# Altium footprint library PowerDistribution.PcbLib: 27 footprints (part 1 of 2)
Each footprint in its own frame and in the unit in brackets; x right, y up, seen from the top. Pads: shape width x height; smd on the part's side, far side on the other; paste and mask are expansions set on the pad; w line width, h text height; cw(c..) or ccw(c..) is an arc to the next point about the centre after c.
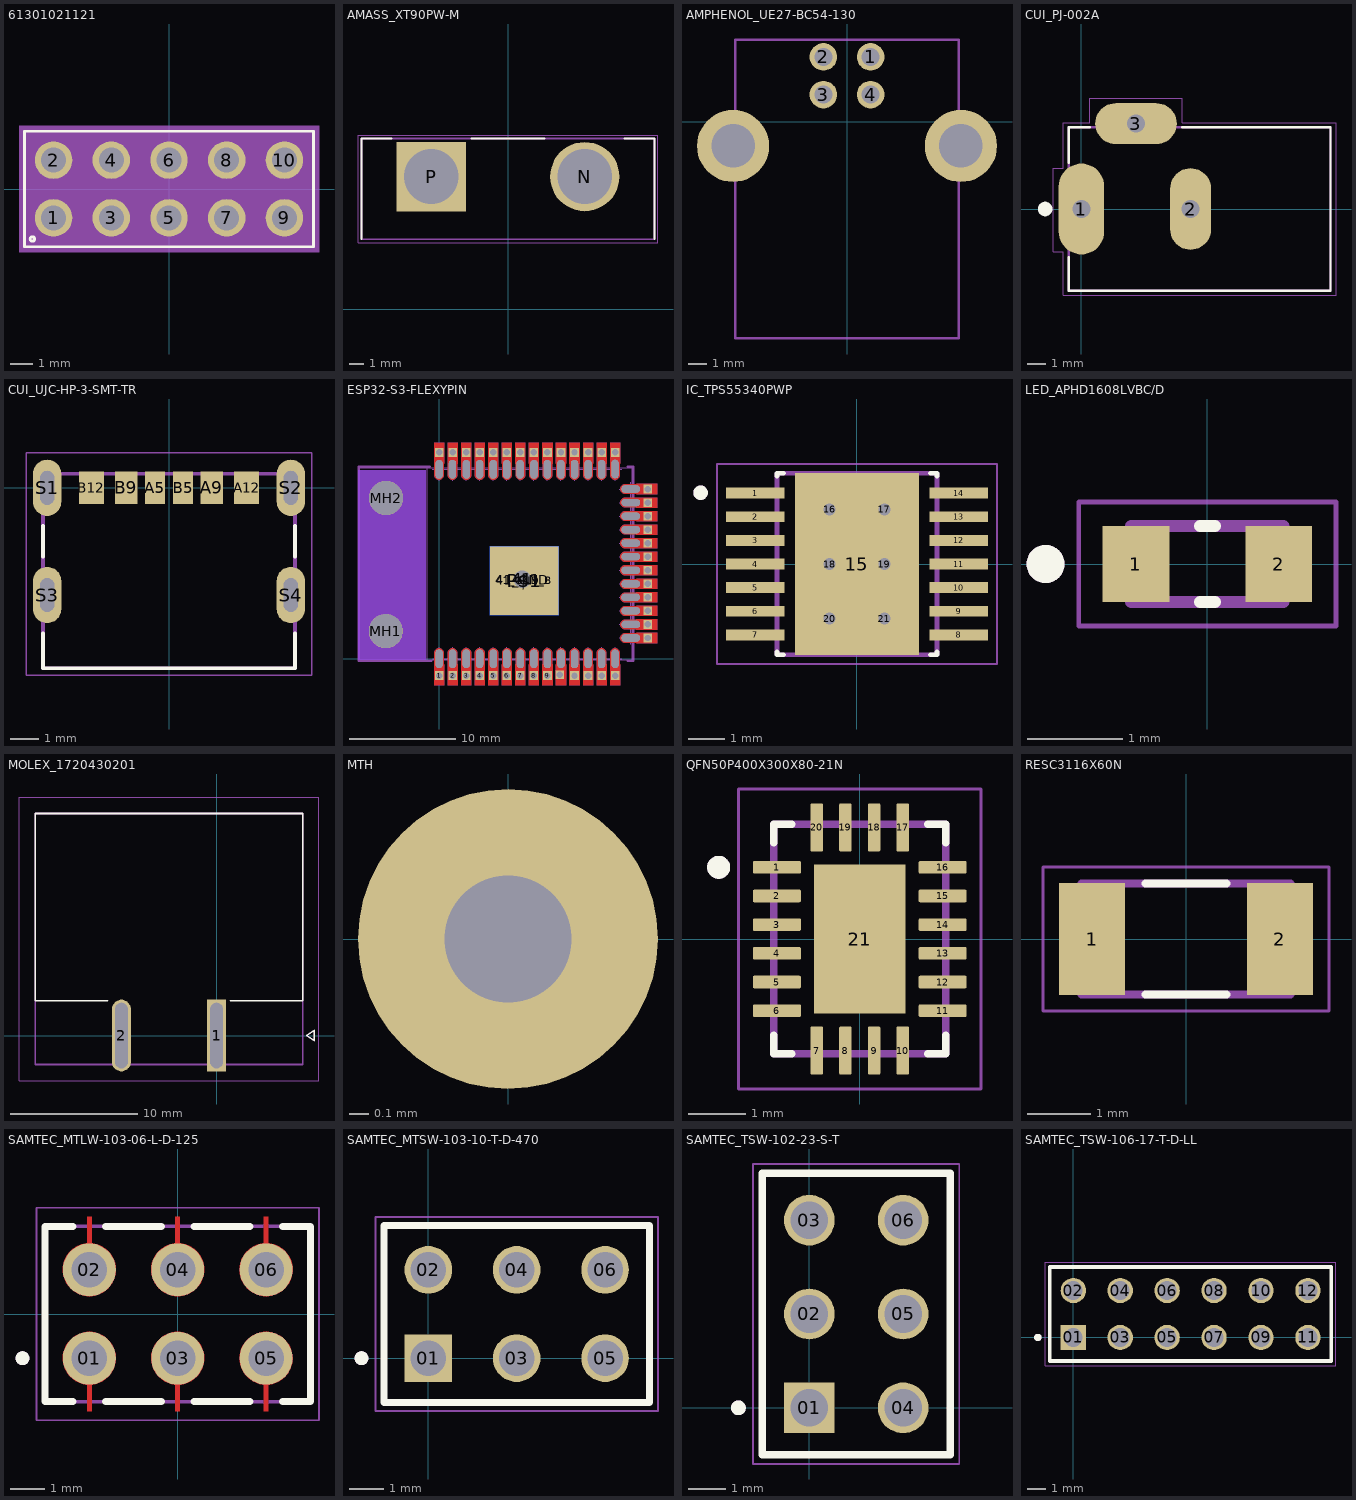
[diagram p0: the footprints below, top view; thin cyan lines are the x and y axes]

## 61301021121 [mm]
pads (10):
  round 1.65 hole 1.1: 1(-5.08,-1.27) 2(-5.08,1.27) 3(-2.54,-1.27) 4(-2.54,1.27) 5(0,-1.27) 6(0,1.27) 7(2.54,-1.27) 8(2.54,1.27) 9(5.08,-1.27) 10(5.08,1.27)
Top Overlay:
  circle w0.127: c-6.01,-2.2 r0.1
  lines w0.127: -6.35,-2.54 -6.35,2.54 6.35,2.54 6.35,-2.54 -6.35,-2.54
Mechanical 15:
  region: 6.6,-2.79 -6.6,-2.79 -6.6,2.79 6.6,2.79

## AMASS_XT90PW-M [mm]
pads (2):
  round 4.916 hole 3.9: N(5.45,9.4)
  rect 4.916x4.916 / inner round 4.916 / far side rect 4.916x4.916 hole 3.9: P(-5.45,9.4)
Top Overlay:
  lines w0.127: -10.4,4.953 -10.4,12.1 -8.25,12.1 ; -2.6,12.1 2.6,12.1 ; 8.25,12.1 10.4,12.1 10.4,4.953
Mechanical 13:
  lines w0.127: -10.4,4.953 -10.4,12.1 10.4,12.1 10.4,4.953 -10.4,4.953
Mechanical 15:
  lines w0.05: -10.65,4.699 -10.65,12.35 10.65,12.35 10.65,4.699 -10.65,4.699

## AMPHENOL_UE27-BC54-130 [mm]
pads (6):
  round 1.458 hole 0.95: 1(1.25,3.44) 2(-1.25,3.44) 3(-1.25,1.44) 4(1.25,1.44)
  round 3.81 hole 2.3: ""(-6.02,-1.27)
  round 3.81 hole 2.3 unplated: ""(6.02,-1.27)
Mechanical 13:
  lines w0.127: -5.9,-11.42 5.9,-11.42 5.9,4.33 -5.9,4.33 -5.9,-11.42

## CUI_PJ-002A [mm]
pads (3):
  oval 2.5x5 hole 1 square: 1(0,0)
  oval 2.25x4.5 hole 1 square: 2(6,0)
  oval 4.5x2.25 hole 1 square: 3(3,4.7)
Top Overlay:
  circle w0.4: c-2,0 r0.2
  lines w0.127: -0.7,-2.65 -0.7,-4.5 13.7,-4.5 13.7,4.5 5.55,4.5 ; -0.7,2.55 -0.7,4.5 0.45,4.5
Mechanical 13:
  lines w0.127: -0.7,-4.5 -0.7,4.5 13.7,4.5 13.7,-4.5 -0.7,-4.5
Mechanical 15:
  lines w0.05: -1.55,-2.35 -1,-2.35 -1,-4.75 14,-4.75 14,4.75 5.55,4.75 5.55,6.1 0.45,6.1 0.45,4.75 -1,4.75 -1,2.25 -1.55,2.25 -1.55,-2.35
3D body "step_temp.STEP": height 11, standoff -3.5, extent -0.7,-4.5 13.7,4.9

## CUI_UJC-HP-3-SMT-TR [mm]
pads (10):
  rect 0.7x1.15 smd: A5(-0.5,0.005) B5(0.5,0.005)
  rect 0.8x1.15 smd: A9(1.52,0.005) B9(-1.52,0.005)
  rect 0.9x1.15 smd: A12(2.75,0.005) B12(-2.75,0.005)
  oval 1x2 hole 0.5 slot 1.2 at 90 deg: S1(-4.32,0) S2(4.32,0) S3(-4.32,-3.8) S4(4.32,-3.8)
Top Overlay:
  lines w0.127: -4.47,-5.15 -4.47,-6.4 4.47,-6.4 4.47,-5.15 ; -4.47,-2.45 -4.47,-1.35 ; 4.47,-2.45 4.47,-1.35
Mechanical 13:
  lines w0.127: -4.47,-6.4 -4.47,0.5 4.47,0.5 4.47,-6.4 -4.47,-6.4
Mechanical 15:
  lines w0.05: -5.07,-6.65 -5.07,1.25 5.07,1.25 5.07,-6.65 -5.07,-6.65

## ESP32-S3-FLEXYPIN [mm]
pads (86):
  rect 0.813x0.813 / inner round 0.751 / far side rect 0.813x0.813 hole 0.6: 1(0,-1.575) 2(1.27,-1.575) 3(2.54,-1.575) 4(3.81,-1.575) 5(5.08,-1.575) 6(6.35,-1.575) 7(7.62,-1.575) 8(8.89,-1.575) 9(10.16,-1.575) 10(11.323,-1.511) 11(12.7,-1.575) 12(13.97,-1.575) 13(15.24,-1.575) 14(16.51,-1.575) 15(19.555,1.95) 16(19.555,3.22) 17(19.555,4.49) 18(19.555,5.76) 19(19.555,7.03) 20(19.555,8.3) 21(19.555,9.57) 22(19.555,10.84) 23(19.555,12.11) 24(19.555,13.38) 25(19.555,14.65) 26(19.555,15.92) 27(16.51,19.355) 28(15.24,19.355) 29(13.97,19.355) 30(12.7,19.355) 31(11.43,19.355) 32(10.16,19.355) 33(8.89,19.355) 34(7.62,19.355) 35(6.35,19.355) 36(5.08,19.355) 37(3.81,19.355) 38(2.54,19.355) 39(1.27,19.355) 40(0,19.355)
  oval 0.66x1.73 hole 0.66 slot 1.73 at 90 deg: 1(0,0) 2(1.27,0) 3(2.54,0) 4(3.81,0) 5(5.08,0) 6(6.35,0) 7(7.62,0) 8(8.89,0) 9(10.16,0) 10(11.43,0) 11(12.7,0) 12(13.97,0) 13(15.24,0) 14(16.51,0) 27(16.5,17.8) 28(15.25,17.775) 29(13.975,17.775) 30(12.7,17.775) 31(11.425,17.775) 32(10.15,17.775) 33(8.9,17.775) 34(7.6,17.775) 35(6.35,17.775) 36(5.075,17.775) 37(3.8,17.775) 38(2.55,17.775) 39(1.25,17.775) 40(0,17.775)
  oval 1.73x0.66 hole 0.66 slot 1.73 at 0 deg: 15(17.975,1.95) 16(17.975,3.225) 17(17.975,4.5) 18(17.965,5.761) 19(17.975,7.025) 20(17.975,8.3) 21(17.975,9.575) 22(17.975,10.85) 23(17.975,12.1) 24(17.975,13.375) 25(17.975,14.65) 26(17.975,15.925)
  round 2.46 hole 1.64: 41(7.8,7.478)
  rect 6x6 smd: 41_GND(7.8,7.363)
  rect 6.452x6.452 smd far side: 41_GND_B(7.988,7.315)
  round 3.175 hole 3.175 unplated: MH1(-5.004,2.591) MH2(-4.978,15.075)
  rect 6.452x6.452 smd: P$1(7.988,7.315)
Top Layer:
  region: 0.475,20.28 0.475,18.28 -0.475,18.28 -0.475,20.28
  region: 1.745,20.28 1.745,18.28 0.795,18.28 0.795,20.28
  region: 3.015,20.28 3.015,18.28 2.065,18.28 2.065,20.28
  region: 4.285,20.28 4.285,18.28 3.335,18.28 3.335,20.28
  region: 5.555,20.28 5.555,18.28 4.605,18.28 4.605,20.28
  region: 6.825,20.28 6.825,18.28 5.875,18.28 5.875,20.28
  region: 8.095,20.28 8.095,18.28 7.145,18.28 7.145,20.28
  region: 9.365,20.28 9.365,18.28 8.415,18.28 8.415,20.28
  region: 10.635,20.28 10.635,18.28 9.685,18.28 9.685,20.28
  region: 11.905,20.28 11.905,18.28 10.955,18.28 10.955,20.28
  region: 13.175,20.28 13.175,18.28 12.225,18.28 12.225,20.28
  region: 14.445,20.28 14.445,18.28 13.495,18.28 13.495,20.28
  region: 15.715,20.28 15.715,18.28 14.765,18.28 14.765,20.28
  region: 16.985,20.28 16.985,18.28 16.035,18.28 16.035,20.28
  region: 20.48,15.445 18.48,15.445 18.48,16.395 20.48,16.395
  region: 20.48,14.175 18.48,14.175 18.48,15.125 20.48,15.125
  region: 20.48,12.905 18.48,12.905 18.48,13.855 20.48,13.855
  region: 20.48,11.635 18.48,11.635 18.48,12.585 20.48,12.585
  region: 20.48,10.365 18.48,10.365 18.48,11.315 20.48,11.315
  region: 20.48,9.095 18.48,9.095 18.48,10.045 20.48,10.045
  region: 20.48,7.825 18.48,7.825 18.48,8.775 20.48,8.775
  region: 20.48,6.555 18.48,6.555 18.48,7.505 20.48,7.505
  region: 20.48,5.285 18.48,5.285 18.48,6.235 20.48,6.235
  region: 20.48,4.015 18.48,4.015 18.48,4.965 20.48,4.965
  region: 20.48,2.745 18.48,2.745 18.48,3.695 20.48,3.695
  region: 20.48,1.475 18.48,1.475 18.48,2.425 20.48,2.425
  region: 16.035,-2.5 16.035,-0.5 16.985,-0.5 16.985,-2.5
  region: 14.765,-2.5 14.765,-0.5 15.715,-0.5 15.715,-2.5
  region: 13.495,-2.5 13.495,-0.5 14.445,-0.5 14.445,-2.5
  region: 12.225,-2.5 12.225,-0.5 13.175,-0.5 13.175,-2.5
  region: 10.955,-2.5 10.955,-0.5 11.905,-0.5 11.905,-2.5
  region: 9.685,-2.5 9.685,-0.5 10.635,-0.5 10.635,-2.5
  region: 8.415,-2.5 8.415,-0.5 9.365,-0.5 9.365,-2.5
  region: 7.145,-2.5 7.145,-0.5 8.095,-0.5 8.095,-2.5
  region: 5.875,-2.5 5.875,-0.5 6.825,-0.5 6.825,-2.5
  region: 4.605,-2.5 4.605,-0.5 5.555,-0.5 5.555,-2.5
  region: 3.335,-2.5 3.335,-0.5 4.285,-0.5 4.285,-2.5
  region: 2.065,-2.5 2.065,-0.5 3.015,-0.5 3.015,-2.5
  region: 0.795,-2.5 0.795,-0.5 1.745,-0.5 1.745,-2.5
  region: -0.475,-2.5 -0.475,-0.5 0.475,-0.5 0.475,-2.5
  lines w0.95: 0,-0.525 0,0.525 ; 0,17.255 0,18.305 ; 1.27,-0.525 1.27,0.525 ; 1.27,17.255 1.27,18.305 ; 2.54,-0.525 2.54,0.525 ; 2.54,17.255 2.54,18.305 ; 3.81,-0.525 3.81,0.525 ; 3.81,17.255 3.81,18.305 ; 5.08,-0.525 5.08,0.525 ; 5.08,17.255 5.08,18.305 ; 6.35,-0.525 6.35,0.525 ; 6.35,17.255 6.35,18.305 ; 7.62,-0.525 7.62,0.525 ; 7.62,17.255 7.62,18.305 ; 8.89,-0.525 8.89,0.525 ; 8.89,17.255 8.89,18.305 ; 10.16,-0.525 10.16,0.525 ; 10.16,17.255 10.16,18.305 ; 11.43,-0.525 11.43,0.525 ; 11.43,17.255 11.43,18.305 ; 12.7,-0.525 12.7,0.525 ; 12.7,17.255 12.7,18.305 ; 13.97,-0.525 13.97,0.525 ; 13.97,17.255 13.97,18.305 ; 15.24,-0.525 15.24,0.525 ; 15.24,17.255 15.24,18.305 ; 16.51,-0.525 16.51,0.525 ; 16.51,17.255 16.51,18.305 ; 17.455,1.95 18.505,1.95 ; 17.455,3.22 18.505,3.22 ; 17.455,4.49 18.505,4.49 ; 17.455,5.76 18.505,5.76 ; 17.455,7.03 18.505,7.03 ; 17.455,8.3 18.505,8.3 ; 17.455,9.57 18.505,9.57 ; 17.455,10.84 18.505,10.84 ; 17.455,12.11 18.505,12.11 ; 17.455,13.38 18.505,13.38 ; 17.455,14.65 18.505,14.65 ; 17.455,15.92 18.505,15.92
Top Layer keep-out:
  region: -1.26,17.693 -1.26,-0.087 -7.61,-0.087 -7.61,17.693
Bottom Layer:
  region: 0.475,20.28 0.475,18.38 -0.475,18.38 -0.475,20.28
  region: 1.745,20.28 1.745,18.38 0.795,18.38 0.795,20.28
  region: 3.015,20.28 3.015,18.38 2.065,18.38 2.065,20.28
  region: 4.285,20.28 4.285,18.38 3.335,18.38 3.335,20.28
  region: 5.555,20.28 5.555,18.38 4.605,18.38 4.605,20.28
  region: 6.825,20.28 6.825,18.38 5.875,18.38 5.875,20.28
  region: 8.095,20.28 8.095,18.38 7.145,18.38 7.145,20.28
  region: 9.365,20.28 9.365,18.38 8.415,18.38 8.415,20.28
  region: 10.635,20.28 10.635,18.38 9.685,18.38 9.685,20.28
  region: 11.905,20.28 11.905,18.38 10.955,18.38 10.955,20.28
  region: 13.175,20.28 13.175,18.38 12.225,18.38 12.225,20.28
  region: 14.445,20.28 14.445,18.38 13.495,18.38 13.495,20.28
  region: 15.715,20.28 15.715,18.38 14.765,18.38 14.765,20.28
  region: 16.985,20.28 16.985,18.38 16.035,18.38 16.035,20.28
  region: 20.48,15.445 18.58,15.445 18.58,16.395 20.48,16.395
  region: 20.48,14.175 18.58,14.175 18.58,15.125 20.48,15.125
  region: 20.48,12.905 18.58,12.905 18.58,13.855 20.48,13.855
  region: 20.48,11.635 18.58,11.635 18.58,12.585 20.48,12.585
  region: 20.48,10.365 18.58,10.365 18.58,11.315 20.48,11.315
  region: 20.48,9.095 18.58,9.095 18.58,10.045 20.48,10.045
  region: 20.48,7.825 18.58,7.825 18.58,8.775 20.48,8.775
  region: 20.48,6.555 18.58,6.555 18.58,7.505 20.48,7.505
  region: 20.48,5.285 18.58,5.285 18.58,6.235 20.48,6.235
  region: 20.48,4.015 18.58,4.015 18.58,4.965 20.48,4.965
  region: 20.48,2.745 18.58,2.745 18.58,3.695 20.48,3.695
  region: 20.48,1.475 18.58,1.475 18.58,2.425 20.48,2.425
  region: 16.035,-2.5 16.035,-0.6 16.985,-0.6 16.985,-2.5
  region: 14.765,-2.5 14.765,-0.6 15.715,-0.6 15.715,-2.5
  region: 13.495,-2.5 13.495,-0.6 14.445,-0.6 14.445,-2.5
  region: 12.225,-2.5 12.225,-0.6 13.175,-0.6 13.175,-2.5
  region: 10.955,-2.5 10.955,-0.6 11.905,-0.6 11.905,-2.5
  region: 9.685,-2.5 9.685,-0.6 10.635,-0.6 10.635,-2.5
  region: 8.415,-2.5 8.415,-0.6 9.365,-0.6 9.365,-2.5
  region: 7.145,-2.5 7.145,-0.6 8.095,-0.6 8.095,-2.5
  region: 5.875,-2.5 5.875,-0.6 6.825,-0.6 6.825,-2.5
  region: 4.605,-2.5 4.605,-0.6 5.555,-0.6 5.555,-2.5
  region: 3.335,-2.5 3.335,-0.6 4.285,-0.6 4.285,-2.5
  region: 2.065,-2.5 2.065,-0.6 3.015,-0.6 3.015,-2.5
  region: 0.795,-2.5 0.795,-0.6 1.745,-0.6 1.745,-2.5
  region: -0.475,-2.5 -0.475,-0.6 0.475,-0.6 0.475,-2.5
  lines w0.95: 0,-0.525 0,0.525 ; 0,17.255 0,18.305 ; 1.27,-0.525 1.27,0.525 ; 1.27,17.255 1.27,18.305 ; 2.54,-0.525 2.54,0.525 ; 2.54,17.255 2.54,18.305 ; 3.81,-0.525 3.81,0.525 ; 3.81,17.255 3.81,18.305 ; 5.08,-0.525 5.08,0.525 ; 5.08,17.255 5.08,18.305 ; 6.35,-0.525 6.35,0.525 ; 6.35,17.255 6.35,18.305 ; 7.62,-0.525 7.62,0.525 ; 7.62,17.255 7.62,18.305 ; 8.89,-0.525 8.89,0.525 ; 8.89,17.255 8.89,18.305 ; 10.16,-0.525 10.16,0.525 ; 10.16,17.255 10.16,18.305 ; 11.43,-0.525 11.43,0.525 ; 11.43,17.255 11.43,18.305 ; 12.7,-0.525 12.7,0.525 ; 12.7,17.255 12.7,18.305 ; 13.97,-0.525 13.97,0.525 ; 13.97,17.255 13.97,18.305 ; 15.24,-0.525 15.24,0.525 ; 15.24,17.255 15.24,18.305 ; 16.51,-0.525 16.51,0.525 ; 16.51,17.255 16.51,18.305 ; 17.455,1.95 18.505,1.95 ; 17.455,3.22 18.505,3.22 ; 17.455,4.49 18.505,4.49 ; 17.455,5.76 18.505,5.76 ; 17.455,7.03 18.505,7.03 ; 17.455,8.3 18.505,8.3 ; 17.455,9.57 18.505,9.57 ; 17.455,10.84 18.505,10.84 ; 17.455,12.11 18.505,12.11 ; 17.455,13.38 18.505,13.38 ; 17.455,14.65 18.505,14.65 ; 17.455,15.92 18.505,15.92
Bottom Layer keep-out:
  region: -1.26,17.693 -1.26,-0.087 -7.61,-0.087 -7.61,17.693
Top Solder:
  drawing of 80 lines, arcs and shapes, not listed
Bottom Solder:
  drawing of 80 lines, arcs and shapes, not listed
Mechanical 2:
  drawing of 160 lines, arcs and shapes, not listed
Mechanical 3:
  drawing of 167 lines, arcs and shapes, not listed
  text "Keepout Zone" at -4.43,8.914 h1.97
Mechanical 7:
  lines w0.203: -0.841,18.041 -7.557,18.041 -7.557,-0.214 -0.741,-0.214 ; 17.7,-0.214 18.227,-0.214 18.227,17.963 ; 17.7,18.041 18.227,18.041

## IC_TPS55340PWP [mm]
pads (21):
  rect 1.6x0.3 smd paste-0.025: 1(-2.8,1.95) 2(-2.8,1.3) 3(-2.8,0.65) 4(-2.8,0) 5(-2.8,-0.65) 6(-2.8,-1.3) 7(-2.8,-1.95) 8(2.8,-1.95) 9(2.8,-1.3) 10(2.8,-0.65) 11(2.8,0) 12(2.8,0.65) 13(2.8,1.3) 14(2.8,1.95)
  rect 3.4x5 smd paste-3 mask+0: 15(0,0)
  round 0.43 hole 0.33 mask+0: 16(-0.75,1.5) 17(0.75,1.5) 18(-0.75,0) 19(0.75,0) 20(-0.75,-1.5) 21(0.75,-1.5)
Top Overlay:
  circle w0.2: c-4.3,1.96 r0.1
  lines w0.127: -2.2,-2.42 -2.2,-2.5 -2.02,-2.5 ; -2.2,2.42 -2.2,2.5 -2.02,2.5 ; 2.02,-2.5 2.2,-2.5 2.2,-2.42 ; 2.02,2.5 2.2,2.5 2.2,2.42
Top Paste:
  region: 1.23,-1.155 -1.23,-1.155 -1.23,1.155 1.23,1.155
Top Solder:
  region: 1.23,-1.155 -1.23,-1.155 -1.23,1.155 1.23,1.155
Mechanical 13:
  circle w0.2: c-4.3,1.96 r0.1
  lines w0.127: -2.2,-2.5 2.2,-2.5 2.2,2.5 -2.2,2.5 -2.2,-2.5
Mechanical 15:
  lines w0.05: -3.85,-2.75 3.85,-2.75 3.85,2.75 -3.85,2.75 -3.85,-2.75
3D body "step_temp.STEP": height 1.2, standoff 0, extent -3.2,-2.5 3.2,2.5

## LED_APHD1608LVBC/D [mm]
pads (2):
  rect 0.7x0.8 smd: 1(-0.75,0) 2(0.75,0)
Top Overlay:
  circle w0.2: c-1.7,0 r0.1
  lines w0.127: -0.08,-0.4 0.08,-0.4 ; -0.08,0.4 0.08,0.4
Mechanical 13:
  circle w0.2: c-1.7,0 r0.1
  lines w0.127: -0.8,-0.4 0.8,-0.4 0.8,0.4 -0.8,0.4 -0.8,-0.4
Mechanical 15:
  lines w0.05: -1.35,-0.65 1.35,-0.65 1.35,0.65 -1.35,0.65 -1.35,-0.65

## MOLEX_1720430201 [mm]
height 13.54
pads (2):
  rect 1.5x5.65 hole 1 slot 5.15 at 90 deg: 1(0,0)
  oval 1.5x5.65 hole 1 slot 5.15 at 90 deg: 2(-7.49,0)
Top Overlay:
  lines w0.127: -8.575,2.735 -14.285,2.735 -14.285,17.485 6.795,17.485 6.795,2.735 1.085,2.735 ; 7.105,0 7.705,0.4 7.705,-0.4 7.105,0
Mechanical 13:
  lines w0.127: -14.285,-2.285 -14.285,17.485 6.795,17.485 6.795,-2.285 -14.285,-2.285 ; 7.105,0 7.705,0.4 7.705,-0.4 7.105,0
  text "PTH Slot 1.00 +/- 0.08 X 5.15 +/- 0.13" at -14.295,-10.16 h0.5
Mechanical 15:
  lines w0.05: -15.555,-3.555 -15.555,18.755 8.065,18.755 8.065,-3.555 -15.555,-3.555

## MTH [mil] "Mounting Hole"
pads (1):
  round 60 hole 25.35: ""(0,0)

## QFN50P400X300X80-21N [mm]
pads (21):
  rrect25% 0.84x0.22 smd: 1(-1.445,1.25) 2(-1.445,0.75) 3(-1.445,0.25) 4(-1.445,-0.25) 5(-1.445,-0.75) 6(-1.445,-1.25) 11(1.445,-1.25) 12(1.445,-0.75) 13(1.445,-0.25) 14(1.445,0.25) 15(1.445,0.75) 16(1.445,1.25)
  rrect25% 0.22x0.84 smd: 7(-0.75,-1.945) 8(-0.25,-1.945) 9(0.25,-1.945) 10(0.75,-1.945) 17(0.75,1.945) 18(0.25,1.945) 19(-0.25,1.945) 20(-0.75,1.945)
  rect 1.6x2.6 smd paste-2: 21(0,0)
Top Overlay:
  circle w0.2: c-2.46,1.25 r0.1
  lines w0.127: -1.5,-1.68 -1.5,-2 -1.18,-2 ; -1.5,1.68 -1.5,2 -1.18,2 ; 1.18,-2 1.5,-2 1.5,-1.68 ; 1.18,2 1.5,2 1.5,1.68
Top Paste:
  region: 0.51,-0.82 -0.51,-0.82 -0.51,0.82 0.51,0.82
Mechanical 13:
  circle w0.2: c-2.46,1.25 r0.1
  lines w0.127: -1.5,-2 1.5,-2 1.5,2 -1.5,2 -1.5,-2
Mechanical 15:
  lines w0.05: -2.115,-2.615 2.115,-2.615 2.115,2.615 -2.115,2.615 -2.115,-2.615

## RESC3116X60N [mm]
pads (2):
  rect 1.05x1.77 smd: 1(-1.485,0) 2(1.485,0)
Top Overlay:
  lines w0.127: -0.64,-0.88 0.64,-0.88 ; -0.64,0.88 0.64,0.88
Mechanical 13:
  lines w0.127: -1.65,-0.88 1.65,-0.88 1.65,0.88 -1.65,0.88 -1.65,-0.88
Mechanical 15:
  lines w0.05: -2.26,-1.135 2.26,-1.135 2.26,1.135 -2.26,1.135 -2.26,-1.135

## SAMTEC_MTLW-103-06-L-D-125 [mm]
pads (6):
  round 1.52 hole 1.02: 01(-2.54,-1.27) 02(-2.54,1.27) 03(0,-1.27) 04(0,1.27) 05(2.54,-1.27) 06(2.54,1.27)
Top Layer:
  region: -2.461,-0.514 -2.382,-0.527 -2.305,-0.547 -2.231,-0.576 -2.16,-0.612 -2.093,-0.655 -2.031,-0.705 -1.975,-0.761 -1.925,-0.823 -1.882,-0.89 -1.846,-0.961 -1.817,-1.035 -1.797,-1.112 -1.784,-1.191 -1.78,-1.27 -1.781,-1.308 -1.784,-1.346 -1.788,-1.383 -1.795,-1.421 -1.803,-1.457 -1.813,-1.494 -1.825,-1.529 -1.839,-1.564 -1.854,-1.599 -1.871,-1.633 -1.89,-1.665 -1.91,-1.697 -1.932,-1.728 -1.955,-1.757 -1.98,-1.786 -2.006,-1.813 -2.034,-1.839 -2.063,-1.863 -2.092,-1.886 -2.123,-1.908 -2.155,-1.928 -2.188,-1.946 -2.222,-1.962 -2.257,-1.977 -2.292,-1.991 -2.328,-2.002 -2.364,-2.012 -2.401,-2.02 -2.438,-2.026 -2.475,-2.03 -2.475,-2.8 -2.605,-2.8 -2.605,-2.03 -2.642,-2.026 -2.679,-2.02 -2.716,-2.012 -2.752,-2.002 -2.788,-1.991 -2.823,-1.977 -2.858,-1.962 -2.892,-1.946 -2.925,-1.928 -2.957,-1.908 -2.988,-1.886 -3.017,-1.863 -3.046,-1.839 -3.074,-1.813 -3.1,-1.786 -3.125,-1.757 -3.148,-1.728 -3.17,-1.697 -3.19,-1.665 -3.209,-1.633 -3.226,-1.599 -3.241,-1.564 -3.255,-1.529 -3.267,-1.494 -3.277,-1.457 -3.285,-1.421 -3.292,-1.383 -3.296,-1.346 -3.299,-1.308 -3.3,-1.27 -3.296,-1.191 -3.283,-1.112 -3.263,-1.035 -3.234,-0.961 -3.198,-0.89 -3.155,-0.823 -3.105,-0.761 -3.049,-0.705 -2.987,-0.655 -2.92,-0.612 -2.849,-0.576 -2.775,-0.547 -2.698,-0.527 -2.619,-0.514 -2.54,-0.51
  region: -2.475,2.03 -2.446,2.027 -2.412,2.022 -2.377,2.016 -2.343,2.008 -2.31,1.998 -2.277,1.987 -2.244,1.975 -2.212,1.961 -2.181,1.945 -2.15,1.928 -2.12,1.91 -2.091,1.89 -2.064,1.869 -2.037,1.847 -2.011,1.823 -1.986,1.799 -1.962,1.773 -1.94,1.746 -1.919,1.718 -1.899,1.69 -1.88,1.66 -1.863,1.63 -1.847,1.598 -1.833,1.566 -1.82,1.534 -1.809,1.501 -1.799,1.467 -1.791,1.433 -1.784,1.399 -1.78,1.37 -1.78,1.27 -1.781,1.23 -1.784,1.191 -1.789,1.151 -1.797,1.112 -1.806,1.073 -1.817,1.035 -1.83,0.998 -1.846,0.961 -1.863,0.925 -1.882,0.89 -1.903,0.856 -1.925,0.823 -1.949,0.792 -1.975,0.761 -2.003,0.733 -2.031,0.705 -2.062,0.679 -2.093,0.655 -2.126,0.633 -2.16,0.612 -2.195,0.593 -2.231,0.576 -2.268,0.56 -2.305,0.547 -2.343,0.536 -2.382,0.527 -2.421,0.519 -2.461,0.514 -2.5,0.511 -2.54,0.51 -2.58,0.511 -2.619,0.514 -2.659,0.519 -2.698,0.527 -2.737,0.536 -2.775,0.547 -2.812,0.56 -2.849,0.576 -2.885,0.593 -2.92,0.612 -2.954,0.633 -2.987,0.655 -3.018,0.679 -3.049,0.705 -3.077,0.733 -3.105,0.761 -3.131,0.792 -3.155,0.823 -3.177,0.856 -3.198,0.89 -3.217,0.925 -3.234,0.961 -3.25,0.998 -3.263,1.035 -3.274,1.073 -3.283,1.112 -3.291,1.151 -3.296,1.191 -3.299,1.23 -3.3,1.27 -3.3,1.37 -3.296,1.399 -3.289,1.433 -3.281,1.467 -3.271,1.501 -3.26,1.534 -3.247,1.566 -3.233,1.598 -3.217,1.63 -3.2,1.66 -3.181,1.69 -3.161,1.718 -3.14,1.746 -3.118,1.773 -3.094,1.799 -3.069,1.823 -3.043,1.847 -3.016,1.869 -2.989,1.89 -2.96,1.91 -2.93,1.928 -2.899,1.945 -2.868,1.961 -2.836,1.975 -2.803,1.987 -2.77,1.998 -2.737,2.008 -2.703,2.016 -2.668,2.022 -2.634,2.027 -2.605,2.03 -2.605,2.8 -2.475,2.8
  region: 0.079,-0.514 0.158,-0.527 0.235,-0.547 0.309,-0.576 0.38,-0.612 0.447,-0.655 0.509,-0.705 0.565,-0.761 0.615,-0.823 0.658,-0.89 0.694,-0.961 0.723,-1.035 0.743,-1.112 0.756,-1.191 0.76,-1.27 0.759,-1.308 0.756,-1.346 0.752,-1.383 0.745,-1.421 0.737,-1.457 0.727,-1.494 0.715,-1.529 0.701,-1.564 0.686,-1.599 0.669,-1.633 0.65,-1.665 0.63,-1.697 0.608,-1.728 0.585,-1.757 0.56,-1.786 0.534,-1.813 0.506,-1.839 0.477,-1.863 0.448,-1.886 0.417,-1.908 0.385,-1.928 0.352,-1.946 0.318,-1.962 0.283,-1.977 0.248,-1.991 0.212,-2.002 0.176,-2.012 0.139,-2.02 0.102,-2.026 0.065,-2.03 0.065,-2.8 -0.065,-2.8 -0.065,-2.03 -0.102,-2.026 -0.139,-2.02 -0.176,-2.012 -0.212,-2.002 -0.248,-1.991 -0.283,-1.977 -0.318,-1.962 -0.352,-1.946 -0.385,-1.928 -0.417,-1.908 -0.448,-1.886 -0.477,-1.863 -0.506,-1.839 -0.534,-1.813 -0.56,-1.786 -0.585,-1.757 -0.608,-1.728 -0.63,-1.697 -0.65,-1.665 -0.669,-1.633 -0.686,-1.599 -0.701,-1.564 -0.715,-1.529 -0.727,-1.494 -0.737,-1.457 -0.745,-1.421 -0.752,-1.383 -0.756,-1.346 -0.759,-1.308 -0.76,-1.27 -0.756,-1.191 -0.743,-1.112 -0.723,-1.035 -0.694,-0.961 -0.658,-0.89 -0.615,-0.823 -0.565,-0.761 -0.509,-0.705 -0.447,-0.655 -0.38,-0.612 -0.309,-0.576 -0.235,-0.547 -0.158,-0.527 -0.079,-0.514 0,-0.51
  region: 0.065,2.03 0.094,2.027 0.128,2.022 0.163,2.016 0.197,2.008 0.23,1.998 0.263,1.987 0.296,1.975 0.328,1.961 0.359,1.945 0.39,1.928 0.42,1.91 0.449,1.89 0.476,1.869 0.503,1.847 0.529,1.823 0.554,1.799 0.578,1.773 0.6,1.746 0.621,1.718 0.641,1.69 0.66,1.66 0.677,1.63 0.693,1.598 0.707,1.566 0.72,1.534 0.731,1.501 0.741,1.467 0.749,1.433 0.756,1.399 0.76,1.37 0.76,1.27 0.759,1.23 0.756,1.191 0.751,1.151 0.743,1.112 0.734,1.073 0.723,1.035 0.71,0.998 0.694,0.961 0.677,0.925 0.658,0.89 0.637,0.856 0.615,0.823 0.591,0.792 0.565,0.761 0.537,0.733 0.509,0.705 0.478,0.679 0.447,0.655 0.414,0.633 0.38,0.612 0.345,0.593 0.309,0.576 0.272,0.56 0.235,0.547 0.197,0.536 0.158,0.527 0.119,0.519 0.079,0.514 0.04,0.511 0,0.51 -0.04,0.511 -0.079,0.514 -0.119,0.519 -0.158,0.527 -0.197,0.536 -0.235,0.547 -0.272,0.56 -0.309,0.576 -0.345,0.593 -0.38,0.612 -0.414,0.633 -0.447,0.655 -0.478,0.679 -0.509,0.705 -0.537,0.733 -0.565,0.761 -0.591,0.792 -0.615,0.823 -0.637,0.856 -0.658,0.89 -0.677,0.925 -0.694,0.961 -0.71,0.998 -0.723,1.035 -0.734,1.073 -0.743,1.112 -0.751,1.151 -0.756,1.191 -0.759,1.23 -0.76,1.27 -0.76,1.37 -0.756,1.399 -0.749,1.433 -0.741,1.467 -0.731,1.501 -0.72,1.534 -0.707,1.566 -0.693,1.598 -0.677,1.63 -0.66,1.66 -0.641,1.69 -0.621,1.718 -0.6,1.746 -0.578,1.773 -0.554,1.799 -0.529,1.823 -0.503,1.847 -0.476,1.869 -0.449,1.89 -0.42,1.91 -0.39,1.928 -0.359,1.945 -0.328,1.961 -0.296,1.975 -0.263,1.987 -0.23,1.998 -0.197,2.008 -0.163,2.016 -0.128,2.022 -0.094,2.027 -0.065,2.03 -0.065,2.8 0.065,2.8
  region: 2.619,-0.514 2.698,-0.527 2.775,-0.547 2.849,-0.576 2.92,-0.612 2.987,-0.655 3.049,-0.705 3.105,-0.761 3.155,-0.823 3.198,-0.89 3.234,-0.961 3.263,-1.035 3.283,-1.112 3.296,-1.191 3.3,-1.27 3.299,-1.308 3.296,-1.346 3.292,-1.383 3.285,-1.421 3.277,-1.457 3.267,-1.494 3.255,-1.529 3.241,-1.564 3.226,-1.599 3.209,-1.633 3.19,-1.665 3.17,-1.697 3.148,-1.728 3.125,-1.757 3.1,-1.786 3.074,-1.813 3.046,-1.839 3.017,-1.863 2.988,-1.886 2.957,-1.908 2.925,-1.928 2.892,-1.946 2.858,-1.962 2.823,-1.977 2.788,-1.991 2.752,-2.002 2.716,-2.012 2.679,-2.02 2.642,-2.026 2.605,-2.03 2.605,-2.8 2.475,-2.8 2.475,-2.03 2.438,-2.026 2.401,-2.02 2.364,-2.012 2.328,-2.002 2.292,-1.991 2.257,-1.977 2.222,-1.962 2.188,-1.946 2.155,-1.928 2.123,-1.908 2.092,-1.886 2.063,-1.863 2.034,-1.839 2.006,-1.813 1.98,-1.786 1.955,-1.757 1.932,-1.728 1.91,-1.697 1.89,-1.665 1.871,-1.633 1.854,-1.599 1.839,-1.564 1.825,-1.529 1.813,-1.494 1.803,-1.457 1.795,-1.421 1.788,-1.383 1.784,-1.346 1.781,-1.308 1.78,-1.27 1.784,-1.191 1.797,-1.112 1.817,-1.035 1.846,-0.961 1.882,-0.89 1.925,-0.823 1.975,-0.761 2.031,-0.705 2.093,-0.655 2.16,-0.612 2.231,-0.576 2.305,-0.547 2.382,-0.527 2.461,-0.514 2.54,-0.51
  region: 2.605,2.03 2.634,2.027 2.668,2.022 2.703,2.016 2.737,2.008 2.77,1.998 2.803,1.987 2.836,1.975 2.868,1.961 2.899,1.945 2.93,1.928 2.96,1.91 2.989,1.89 3.016,1.869 3.043,1.847 3.069,1.823 3.094,1.799 3.118,1.773 3.14,1.746 3.161,1.718 3.181,1.69 3.2,1.66 3.217,1.63 3.233,1.598 3.247,1.566 3.26,1.534 3.271,1.501 3.281,1.467 3.289,1.433 3.296,1.399 3.3,1.37 3.3,1.27 3.299,1.23 3.296,1.191 3.291,1.151 3.283,1.112 3.274,1.073 3.263,1.035 3.25,0.998 3.234,0.961 3.217,0.925 3.198,0.89 3.177,0.856 3.155,0.823 3.131,0.792 3.105,0.761 3.077,0.733 3.049,0.705 3.018,0.679 2.987,0.655 2.954,0.633 2.92,0.612 2.885,0.593 2.849,0.576 2.812,0.56 2.775,0.547 2.737,0.536 2.698,0.527 2.659,0.519 2.619,0.514 2.58,0.511 2.54,0.51 2.5,0.511 2.461,0.514 2.421,0.519 2.382,0.527 2.343,0.536 2.305,0.547 2.268,0.56 2.231,0.576 2.195,0.593 2.16,0.612 2.126,0.633 2.093,0.655 2.062,0.679 2.031,0.705 2.003,0.733 1.975,0.761 1.949,0.792 1.925,0.823 1.903,0.856 1.882,0.89 1.863,0.925 1.846,0.961 1.83,0.998 1.817,1.035 1.806,1.073 1.797,1.112 1.789,1.151 1.784,1.191 1.781,1.23 1.78,1.27 1.78,1.37 1.784,1.399 1.791,1.433 1.799,1.467 1.809,1.501 1.82,1.534 1.833,1.566 1.847,1.598 1.863,1.63 1.88,1.66 1.899,1.69 1.919,1.718 1.94,1.746 1.962,1.773 1.986,1.799 2.011,1.823 2.037,1.847 2.064,1.869 2.091,1.89 2.12,1.91 2.15,1.928 2.181,1.945 2.212,1.961 2.244,1.975 2.277,1.987 2.31,1.998 2.343,2.008 2.377,2.016 2.412,2.022 2.446,2.027 2.475,2.03 2.475,2.8 2.605,2.8
Top Overlay:
  circle w0.2: c-4.46,-1.27 r0.1
  lines w0.2: -3.005,-2.515 -3.81,-2.515 -3.81,2.515 -3.005,2.515 ; -2.075,-2.515 -0.465,-2.515 ; -2.075,2.515 -0.465,2.515 ; 0.465,-2.515 2.075,-2.515 ; 0.465,2.515 2.075,2.515 ; 3.005,-2.515 3.81,-2.515 3.81,2.515 3.005,2.515
Top Paste:
  region: -1.46,-1.725 -1.92,-1.725 -2.285,-2.04 -2.285,-2.8 -2.795,-2.8 -2.795,-2.04 -3.16,-1.725 -3.62,-1.725 -3.62,-0.185 -1.46,-0.185
  region: -2.285,2.04 -1.92,1.725 -1.46,1.725 -1.46,0.185 -3.62,0.185 -3.62,1.725 -3.16,1.725 -2.795,2.04 -2.795,2.8 -2.285,2.8
  region: 1.08,-1.725 0.62,-1.725 0.255,-2.04 0.255,-2.8 -0.255,-2.8 -0.255,-2.04 -0.62,-1.725 -1.08,-1.725 -1.08,-0.185 1.08,-0.185
  region: 0.255,2.04 0.62,1.725 1.08,1.725 1.08,0.185 -1.08,0.185 -1.08,1.725 -0.62,1.725 -0.255,2.04 -0.255,2.8 0.255,2.8
  region: 3.62,-1.725 3.16,-1.725 2.795,-2.04 2.795,-2.8 2.285,-2.8 2.285,-2.04 1.92,-1.725 1.46,-1.725 1.46,-0.185 3.62,-0.185
  region: 2.795,2.04 3.16,1.725 3.62,1.725 3.62,0.185 1.46,0.185 1.46,1.725 1.92,1.725 2.285,2.04 2.285,2.8 2.795,2.8
Top Solder:
  drawing of 6 lines, arcs and shapes, not listed
Mechanical 13:
  circle w0.2: c-4.46,-1.27 r0.1
  lines w0.1: -3.81,-2.515 -3.81,2.515 3.81,2.515 3.81,-2.515 -3.81,-2.515
Mechanical 15:
  lines w0.05: -4.06,-3.05 -4.06,3.05 4.06,3.05 4.06,-3.05 -4.06,-3.05

## SAMTEC_MTSW-103-10-T-D-470 [mm]
pads (6):
  rect 1.37x1.37 hole 1.02: 01(0,0)
  round 1.37 hole 1.02: 02(0,2.54) 03(2.54,0) 04(2.54,2.54) 05(5.08,0) 06(5.08,2.54)
Top Overlay:
  circle w0.2: c-1.92,0 r0.1
  lines w0.2: -1.27,-1.27 -1.27,3.81 6.35,3.81 6.35,-1.27 -1.27,-1.27
Mechanical 13:
  circle w0.2: c-1.92,0 r0.1
  lines w0.1: -1.27,-1.27 -1.27,3.81 6.35,3.81 6.35,-1.27 -1.27,-1.27
Mechanical 15:
  lines w0.05: -1.52,-1.52 -1.52,4.06 6.6,4.06 6.6,-1.52 -1.52,-1.52

## SAMTEC_TSW-102-23-S-T [mm]
pads (6):
  rect 1.37x1.37 hole 1.02: 01(0,0)
  round 1.37 hole 1.02: 02(0,2.54) 03(0,5.08) 04(2.54,0) 05(2.54,2.54) 06(2.54,5.08)
Top Overlay:
  circle w0.2: c-1.92,0 r0.1
  lines w0.2: -1.27,-1.27 -1.27,6.35 3.81,6.35 3.81,-1.27 -1.27,-1.27
Mechanical 13:
  circle w0.2: c-1.92,0 r0.1
  lines w0.1: -1.27,-1.27 -1.27,6.35 3.81,6.35 3.81,-1.27 -1.27,-1.27
Mechanical 15:
  lines w0.05: -1.52,-1.52 -1.52,6.6 4.06,6.6 4.06,-1.52 -1.52,-1.52

## SAMTEC_TSW-106-17-T-D-LL [mm]
pads (12):
  rect 1.37x1.37 hole 1.02: 01(0,0)
  round 1.37 hole 1.02: 02(0,2.54) 03(2.54,0) 04(2.54,2.54) 05(5.08,0) 06(5.08,2.54) 07(7.62,0) 08(7.62,2.54) 09(10.16,0) 10(10.16,2.54) 11(12.7,0) 12(12.7,2.54)
Top Overlay:
  circle w0.2: c-1.92,0 r0.1
  lines w0.2: -1.27,-1.27 -1.27,3.81 13.97,3.81 13.97,-1.27 -1.27,-1.27
Mechanical 13:
  circle w0.2: c-1.92,0 r0.1
  lines w0.1: -1.27,-1.27 -1.27,3.81 13.97,3.81 13.97,-1.27 -1.27,-1.27
Mechanical 15:
  lines w0.05: -1.52,-1.52 -1.52,4.06 14.22,4.06 14.22,-1.52 -1.52,-1.52